# Altium schematic symbol library SCH - POWER - SWITCHMODE - TI TPS56920PWP.SchLib: 1 symbol
Pins are listed as number, name and electrical type; pins without a type are passive.

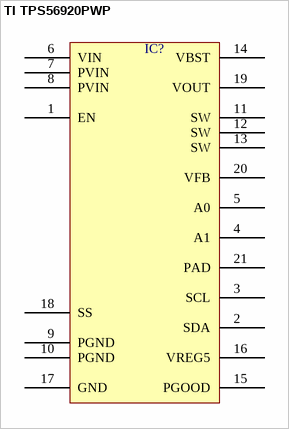
[diagram p0: symbol TI TPS56920PWP]

## TI TPS56920PWP
designator IC?  (value not drawn)
pins: 1 EN, 2 SDA, 3 SCL, 4 A1, 5 A0, 6 VIN, 7 PVIN, 8 PVIN, 9 PGND, 10 PGND, 11 SW, 12 SW, 13 SW, 14 VBST, 15 PGOOD, 16 VREG5, 17 GND, 18 SS, 19 VOUT, 20 VFB, 21 PAD